# EAGLE library part A3976 (library Charlie)
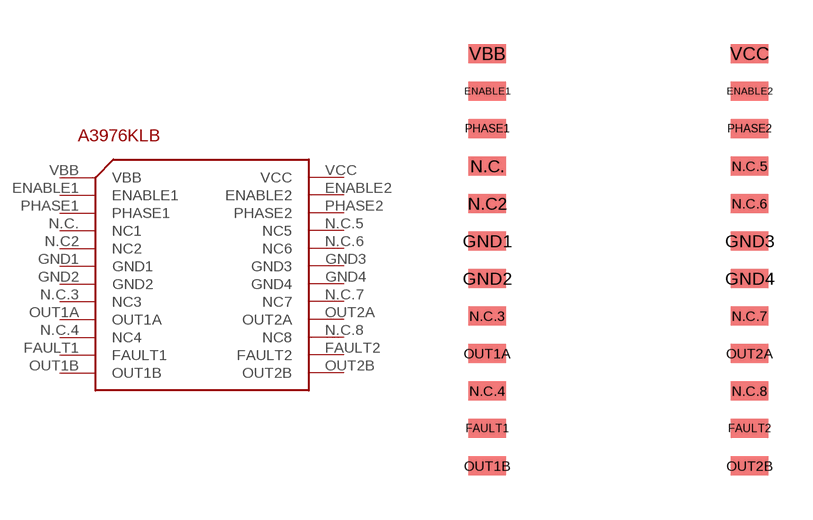
[diagram p3: symbol with the pads of A3976; footprint A3976]

Designator prefix -

## A3976  [A3976]
ENABLE1  ENABLE1
ENABLE2  ENABLE2
FAULT1  FAULT1
FAULT2  FAULT2
GND1  GND1
GND2  GND2
GND3  GND3
GND4  GND4
N.C2  NC2
N.C.  NC1
N.C.3  NC3
N.C.4  NC4
N.C.5  NC5
N.C.6  NC6
N.C.7  NC7
N.C.8  NC8
OUT1A  OUT1A
OUT1B  OUT1B
OUT2A  OUT2A
OUT2B  OUT2B
PHASE1  PHASE1
PHASE2  PHASE2
VBB  VBB
VCC  VCC

## Footprint A3976 (pad centres in mm)
smd 1.27 x 0.635: ENABLE1 -5.08,5.08; ENABLE2 3.81,5.08; FAULT1 -5.08,-6.35; FAULT2 3.81,-6.35; GND1 -5.08,0; GND2 -5.08,-1.27; GND3 3.81,0; GND4 3.81,-1.27; N.C2 -5.08,1.27; N.C. -5.08,2.54; N.C.3 -5.08,-2.54; N.C.4 -5.08,-5.08; N.C.5 3.81,2.54; N.C.6 3.81,1.27; N.C.7 3.81,-2.54; N.C.8 3.81,-5.08; OUT1A -5.08,-3.81; OUT1B -5.08,-7.62; OUT2A 3.81,-3.81; OUT2B 3.81,-7.62; PHASE1 -5.08,3.81; PHASE2 3.81,3.81; VBB -5.08,6.35; VCC 3.81,6.35